# Altium integrated library TCRT5000.IntLib: 1 symbol
Pins are listed as number, name and electrical type; pins without a type are passive.

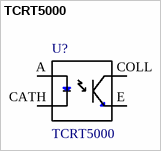
[diagram p0: symbol TCRT5000]

## TCRT5000
designator U?
950 nm 60 mA Through Hole Reflective Optical Sensor with Transistor Output; MF: Vishay; Package: PCB Mount Vishay; Availability: Unavailable; MP: TCRT5000; Price: None; SnapEDA_Link: https://www.snapeda.com/parts/TCRT5000/Vishay%20Semiconductor%20Opto%20Division/view-part/?ref=snap; Value: *
footprint *OPTO_TCRT5000_TCRT5000(Primary)
pins: A, CATH, COLL, E